# Altium integrated library FSC Logic Translator.IntLib: 55 symbols (part 1 of 2)
Pins are listed as number, name and electrical type; pins without a type are passive.

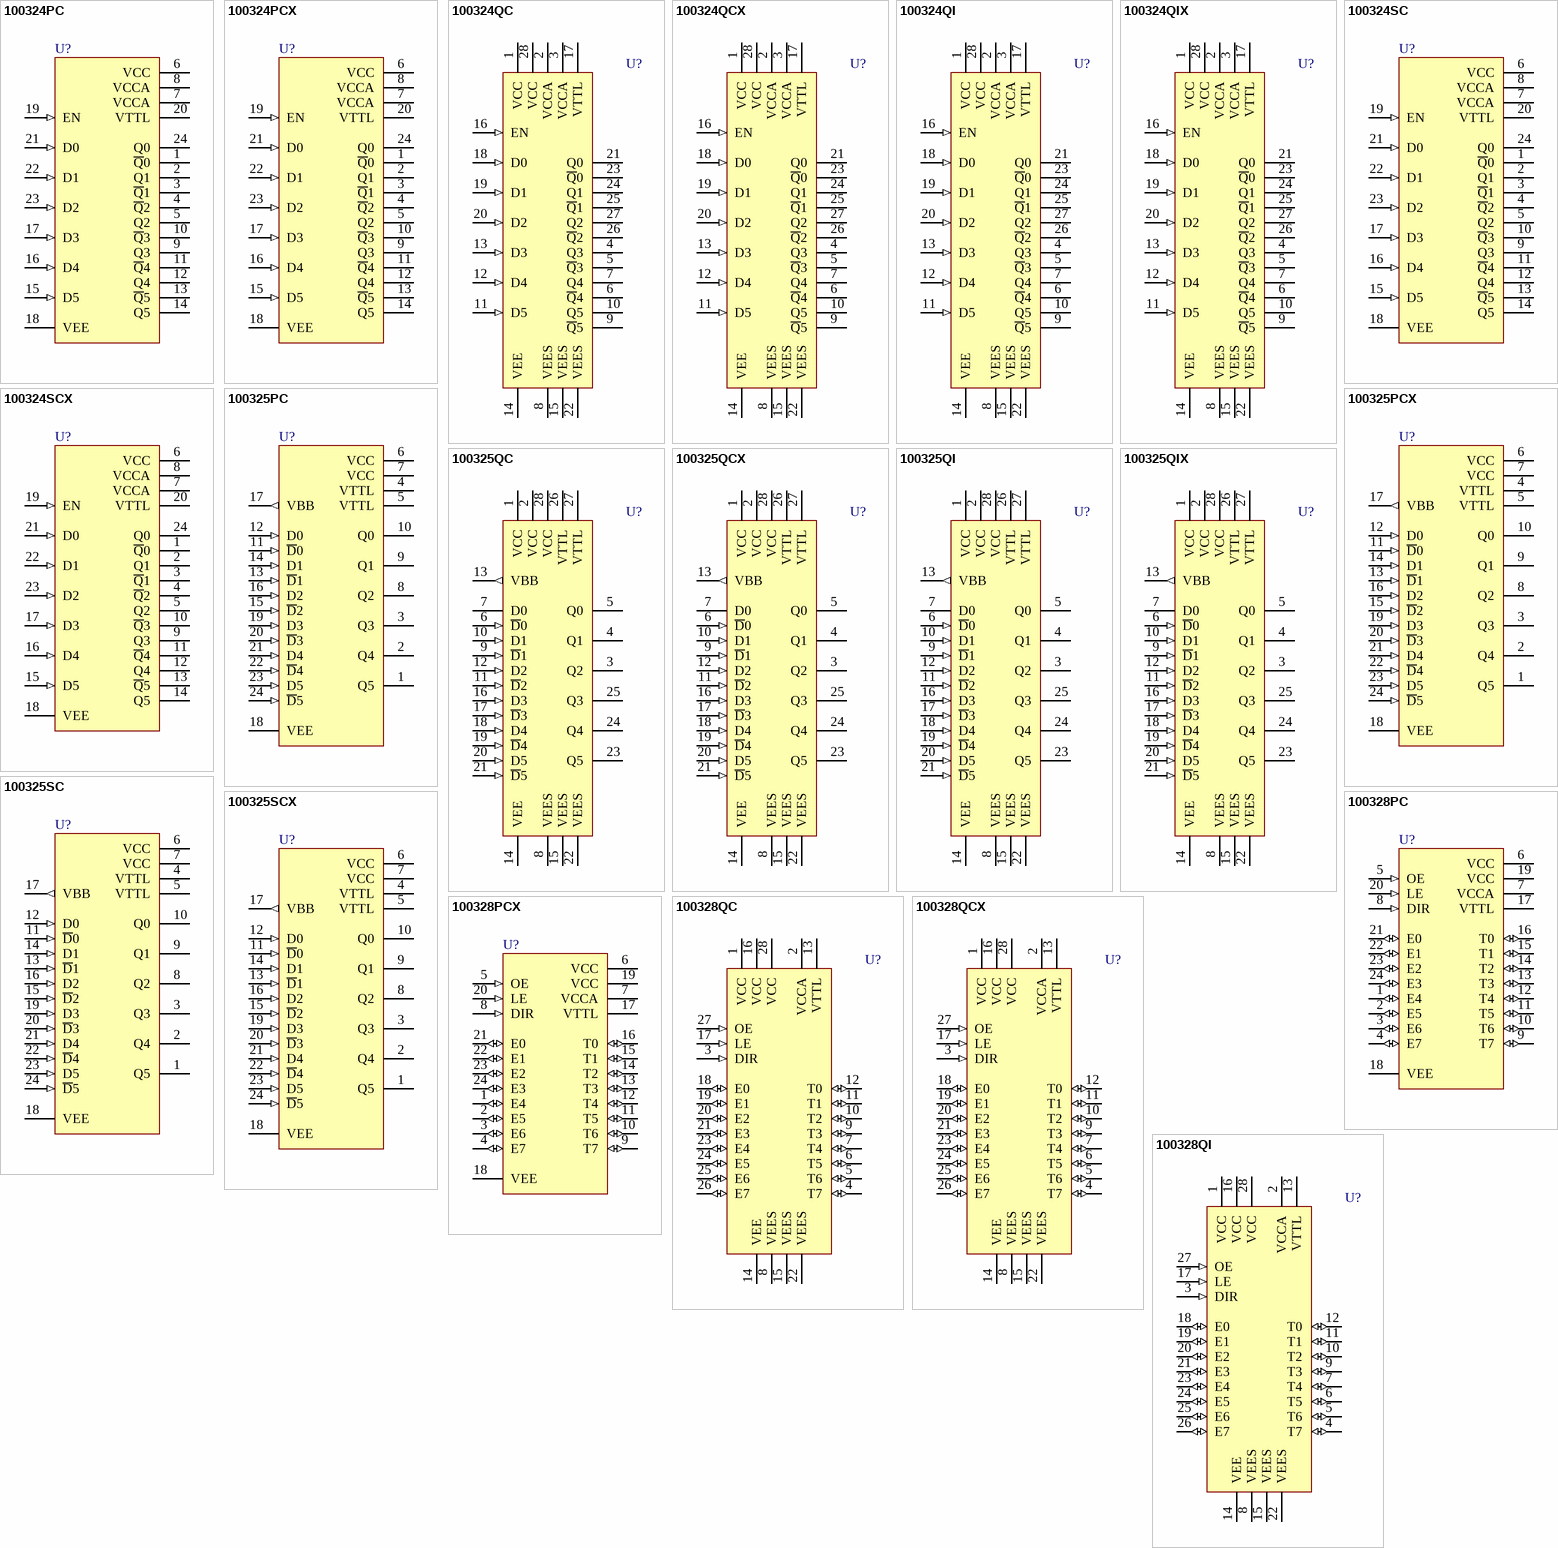
[diagram p0: symbols 100324PC to 100328QI]

## 100324PC
designator U?
Low Power Hex TTL-to-ECL Translator; Published: 17-Jul-2002; LatestRevisionDate: 29-May-2009; LatestRevisionNote: Component Body Added.; DatasheetVersion: Nov-1999; PackageVersion: 1992; PackageReference: N24E; Publisher: Altium Limited; PackageDescription: DIP, 24-Pin, Row Spacing 10.16 mm, Pitch 2.54 mm; ComponentLink1Description: Manufacturer Link; ComponentLink1URL: http://www.fairchildsemi.com/; ComponentLink2Description: Datasheet; ComponentLink2URL: http://www.fairchildsemi.com/ds/10%2F100324.pdf
footprint N24E (DIP, 24-Leads, Row Spacing 10.16mm, Pitch 2.54mm, Body 30.59x8.69mm)
3D model N24E (DIP, 24-Pin, Row Spacing 10.16 mm, Pitch 2.54 mm)
pins: 1 ~{Q}0 (oe), 2 Q1 (oe), 3 ~{Q}1 (oe), 4 ~{Q}2 (oe), 5 Q2 (oe), 6 VCC (power), 7 VCCA (power), 8 VCCA (power), 9 Q3 (oe), 10 ~{Q}3 (oe), 11 ~{Q}4 (oe), 12 Q4 (oe), 13 ~{Q}5 (oe), 14 Q5 (oe), 15 D5 (in), 16 D4 (in), 17 D3 (in), 18 VEE (power), 19 EN (in), 20 VTTL (power), 21 D0 (in), 22 D1 (in), 23 D2 (in), 24 Q0 (oe)

## 100324PCX
designator U?
Low Power Hex TTL-to-ECL Translator; Published: 17-Jul-2002; LatestRevisionDate: 29-May-2009; LatestRevisionNote: Component Body Added.; DatasheetVersion: Nov-1999; PackageVersion: 1992; PackageReference: N24E; Publisher: Altium Limited; PackageDescription: DIP, 24-Pin, Row Spacing 10.16 mm, Pitch 2.54 mm; ComponentLink1Description: Manufacturer Link; ComponentLink1URL: http://www.fairchildsemi.com/; ComponentLink2Description: Datasheet; ComponentLink2URL: http://www.fairchildsemi.com/ds/10%2F100324.pdf
footprint N24E (DIP, 24-Leads, Row Spacing 10.16mm, Pitch 2.54mm, Body 30.59x8.69mm)
3D model N24E (DIP, 24-Pin, Row Spacing 10.16 mm, Pitch 2.54 mm)
pins: 1 ~{Q}0 (oe), 2 Q1 (oe), 3 ~{Q}1 (oe), 4 ~{Q}2 (oe), 5 Q2 (oe), 6 VCC (power), 7 VCCA (power), 8 VCCA (power), 9 Q3 (oe), 10 ~{Q}3 (oe), 11 ~{Q}4 (oe), 12 Q4 (oe), 13 ~{Q}5 (oe), 14 Q5 (oe), 15 D5 (in), 16 D4 (in), 17 D3 (in), 18 VEE (power), 19 EN (in), 20 VTTL (power), 21 D0 (in), 22 D1 (in), 23 D2 (in), 24 Q0 (oe)

## 100324QC
designator U?
Low Power Hex TTL-to-ECL Translator; Published: 17-Jul-2002; LatestRevisionDate: 13-Apr-2006; LatestRevisionNote: IPC-7351 Footprint Added.; DatasheetVersion: Nov-1999; PackageVersion: 2000; PackageReference: V28A; Publisher: Altium Limited; PackageDescription: 28-Pin Leaded Chip Carrier 1.27 mm Pitch; Code_IPC: PLCC-28; ComponentLink1Description: Manufacturer Link; ComponentLink1URL: http://www.fairchildsemi.com/; ComponentLink2Description: Datasheet; ComponentLink2URL: http://www.fairchildsemi.com/ds/10%2F100324.pdf
footprint V28A_N (Leaded Chip Carrier, 28-Leads, Body 11.5x11.5mm, Pitch 1.27mm, IPC Medium Density)
footprint V28A_L (Leaded Chip Carrier, 28-Leads, Body 11.5x11.5mm, Pitch 1.27mm, IPC High Density)
footprint V28A_M (Leaded Chip Carrier, 28-Leads, Body 11.5x11.5mm, Pitch 1.27mm, IPC Low Density)
3D model 100324-V28A (28-Pin Leaded Chip Carrier 1.27 mm Pitch)
pins: 1 VCC (power), 2 VCCA (power), 3 VCCA (power), 4 Q3 (oe), 5 ~{Q}3 (oe), 6 ~{Q}4 (oe), 7 Q4 (oe), 8 VEES (power), 9 ~{Q}5 (oe), 10 Q5 (oe), 11 D5 (in), 12 D4 (in), 13 D3 (in), 14 VEE (power), 15 VEES (power), 16 EN (in), 17 VTTL (power), 18 D0 (in), 19 D1 (in), 20 D2 (in), 21 Q0 (oe), 22 VEES (power), 23 ~{Q}0 (oe), 24 Q1 (oe), 25 ~{Q}1 (oe), 26 ~{Q}2 (oe), 27 Q2 (oe), 28 VCC (power)

## 100324QCX
designator U?
Low Power Hex TTL-to-ECL Translator; Published: 17-Jul-2002; LatestRevisionDate: 13-Apr-2006; LatestRevisionNote: IPC-7351 Footprint Added.; DatasheetVersion: Nov-1999; PackageVersion: 2000; PackageReference: V28A; Publisher: Altium Limited; PackageDescription: 28-Pin Leaded Chip Carrier 1.27 mm Pitch; Code_IPC: PLCC-28; ComponentLink1Description: Manufacturer Link; ComponentLink1URL: http://www.fairchildsemi.com/; ComponentLink2Description: Datasheet; ComponentLink2URL: http://www.fairchildsemi.com/ds/10%2F100324.pdf
footprint V28A_N (Leaded Chip Carrier, 28-Leads, Body 11.5x11.5mm, Pitch 1.27mm, IPC Medium Density)
footprint V28A_L (Leaded Chip Carrier, 28-Leads, Body 11.5x11.5mm, Pitch 1.27mm, IPC High Density)
footprint V28A_M (Leaded Chip Carrier, 28-Leads, Body 11.5x11.5mm, Pitch 1.27mm, IPC Low Density)
3D model 100324-V28A (28-Pin Leaded Chip Carrier 1.27 mm Pitch)
pins: 1 VCC (power), 2 VCCA (power), 3 VCCA (power), 4 Q3 (oe), 5 ~{Q}3 (oe), 6 ~{Q}4 (oe), 7 Q4 (oe), 8 VEES (power), 9 ~{Q}5 (oe), 10 Q5 (oe), 11 D5 (in), 12 D4 (in), 13 D3 (in), 14 VEE (power), 15 VEES (power), 16 EN (in), 17 VTTL (power), 18 D0 (in), 19 D1 (in), 20 D2 (in), 21 Q0 (oe), 22 VEES (power), 23 ~{Q}0 (oe), 24 Q1 (oe), 25 ~{Q}1 (oe), 26 ~{Q}2 (oe), 27 Q2 (oe), 28 VCC (power)

## 100324QI
designator U?
Low Power Hex TTL-to-ECL Translator; Published: 17-Jul-2002; LatestRevisionDate: 13-Apr-2006; LatestRevisionNote: IPC-7351 Footprint Added.; DatasheetVersion: Nov-1999; PackageVersion: 2000; PackageReference: V28A; Publisher: Altium Limited; PackageDescription: 28-Pin Leaded Chip Carrier 1.27 mm Pitch; Code_IPC: PLCC-28; ComponentLink1Description: Manufacturer Link; ComponentLink1URL: http://www.fairchildsemi.com/; ComponentLink2Description: Datasheet; ComponentLink2URL: http://www.fairchildsemi.com/ds/10%2F100324.pdf
footprint V28A_N (Leaded Chip Carrier, 28-Leads, Body 11.5x11.5mm, Pitch 1.27mm, IPC Medium Density)
footprint V28A_L (Leaded Chip Carrier, 28-Leads, Body 11.5x11.5mm, Pitch 1.27mm, IPC High Density)
footprint V28A_M (Leaded Chip Carrier, 28-Leads, Body 11.5x11.5mm, Pitch 1.27mm, IPC Low Density)
3D model 100324-V28A (28-Pin Leaded Chip Carrier 1.27 mm Pitch)
pins: 1 VCC (power), 2 VCCA (power), 3 VCCA (power), 4 Q3 (oe), 5 ~{Q}3 (oe), 6 ~{Q}4 (oe), 7 Q4 (oe), 8 VEES (power), 9 ~{Q}5 (oe), 10 Q5 (oe), 11 D5 (in), 12 D4 (in), 13 D3 (in), 14 VEE (power), 15 VEES (power), 16 EN (in), 17 VTTL (power), 18 D0 (in), 19 D1 (in), 20 D2 (in), 21 Q0 (oe), 22 VEES (power), 23 ~{Q}0 (oe), 24 Q1 (oe), 25 ~{Q}1 (oe), 26 ~{Q}2 (oe), 27 Q2 (oe), 28 VCC (power)

## 100324QIX
designator U?
Low Power Hex TTL-to-ECL Translator; Published: 17-Jul-2002; LatestRevisionDate: 13-Apr-2006; LatestRevisionNote: IPC-7351 Footprint Added.; DatasheetVersion: Nov-1999; PackageVersion: 2000; PackageReference: V28A; Publisher: Altium Limited; PackageDescription: 28-Pin Leaded Chip Carrier 1.27 mm Pitch; Code_IPC: PLCC-28; ComponentLink1Description: Manufacturer Link; ComponentLink1URL: http://www.fairchildsemi.com/; ComponentLink2Description: Datasheet; ComponentLink2URL: http://www.fairchildsemi.com/ds/10%2F100324.pdf
footprint V28A_N (Leaded Chip Carrier, 28-Leads, Body 11.5x11.5mm, Pitch 1.27mm, IPC Medium Density)
footprint V28A_L (Leaded Chip Carrier, 28-Leads, Body 11.5x11.5mm, Pitch 1.27mm, IPC High Density)
footprint V28A_M (Leaded Chip Carrier, 28-Leads, Body 11.5x11.5mm, Pitch 1.27mm, IPC Low Density)
3D model 100324-V28A (28-Pin Leaded Chip Carrier 1.27 mm Pitch)
pins: 1 VCC (power), 2 VCCA (power), 3 VCCA (power), 4 Q3 (oe), 5 ~{Q}3 (oe), 6 ~{Q}4 (oe), 7 Q4 (oe), 8 VEES (power), 9 ~{Q}5 (oe), 10 Q5 (oe), 11 D5 (in), 12 D4 (in), 13 D3 (in), 14 VEE (power), 15 VEES (power), 16 EN (in), 17 VTTL (power), 18 D0 (in), 19 D1 (in), 20 D2 (in), 21 Q0 (oe), 22 VEES (power), 23 ~{Q}0 (oe), 24 Q1 (oe), 25 ~{Q}1 (oe), 26 ~{Q}2 (oe), 27 Q2 (oe), 28 VCC (power)

## 100324SC
designator U?
Low Power Hex TTL-to-ECL Translator; Published: 17-Jul-2002; LatestRevisionDate: 13-Apr-2006; LatestRevisionNote: IPC-7351 Footprint Added.; DatasheetVersion: Nov-1999; PackageVersion: 2000; PackageReference: M24B; Publisher: Altium Limited; PackageDescription: 24-Pin Small Outline Integrated Circuit 1.27 mm Pitch; ComponentLink1Description: Manufacturer Link; ComponentLink1URL: http://www.fairchildsemi.com/; ComponentLink2Description: Datasheet; ComponentLink2URL: http://www.fairchildsemi.com/ds/10%2F100324.pdf
footprint M24B_N (SOIC, 24-Leads, Body 15.4x7.5mm, Pitch 1.27mm, IPC Medium Density)
footprint M24B_L (SOIC, 24-Leads, Body 15.4x7.5mm, Pitch 1.27mm, IPC High Density)
footprint M24B_M (SOIC, 24-Leads, Body 15.4x7.5mm, Pitch 1.27mm, IPC Low Density)
3D model M24B (24-Pin Small Outline Integrated Circuit 1.27 mm Pitch)
pins: 1 ~{Q}0 (oe), 2 Q1 (oe), 3 ~{Q}1 (oe), 4 ~{Q}2 (oe), 5 Q2 (oe), 6 VCC (power), 7 VCCA (power), 8 VCCA (power), 9 Q3 (oe), 10 ~{Q}3 (oe), 11 ~{Q}4 (oe), 12 Q4 (oe), 13 ~{Q}5 (oe), 14 Q5 (oe), 15 D5 (in), 16 D4 (in), 17 D3 (in), 18 VEE (power), 19 EN (in), 20 VTTL (power), 21 D0 (in), 22 D1 (in), 23 D2 (in), 24 Q0 (oe)

## 100324SCX
designator U?
Low Power Hex TTL-to-ECL Translator; Published: 17-Jul-2002; LatestRevisionDate: 13-Apr-2006; LatestRevisionNote: IPC-7351 Footprint Added.; DatasheetVersion: Nov-1999; PackageVersion: 2000; PackageReference: M24B; Publisher: Altium Limited; PackageDescription: 24-Pin Small Outline Integrated Circuit 1.27 mm Pitch; ComponentLink1Description: Manufacturer Link; ComponentLink1URL: http://www.fairchildsemi.com/; ComponentLink2Description: Datasheet; ComponentLink2URL: http://www.fairchildsemi.com/ds/10%2F100324.pdf
footprint M24B_N (SOIC, 24-Leads, Body 15.4x7.5mm, Pitch 1.27mm, IPC Medium Density)
footprint M24B_L (SOIC, 24-Leads, Body 15.4x7.5mm, Pitch 1.27mm, IPC High Density)
footprint M24B_M (SOIC, 24-Leads, Body 15.4x7.5mm, Pitch 1.27mm, IPC Low Density)
3D model M24B (24-Pin Small Outline Integrated Circuit 1.27 mm Pitch)
pins: 1 ~{Q}0 (oe), 2 Q1 (oe), 3 ~{Q}1 (oe), 4 ~{Q}2 (oe), 5 Q2 (oe), 6 VCC (power), 7 VCCA (power), 8 VCCA (power), 9 Q3 (oe), 10 ~{Q}3 (oe), 11 ~{Q}4 (oe), 12 Q4 (oe), 13 ~{Q}5 (oe), 14 Q5 (oe), 15 D5 (in), 16 D4 (in), 17 D3 (in), 18 VEE (power), 19 EN (in), 20 VTTL (power), 21 D0 (in), 22 D1 (in), 23 D2 (in), 24 Q0 (oe)

## 100325PC
designator U?
Low Power Hex ECL-to-TTL Translator; Published: 17-Jul-2002; LatestRevisionDate: 29-May-2009; LatestRevisionNote: Component Body Added.; DatasheetVersion: Nov-1999; PackageVersion: 1992; PackageReference: N24E; Publisher: Altium Limited; PackageDescription: DIP, 24-Pin, Row Spacing 10.16 mm, Pitch 2.54 mm; ComponentLink1Description: Manufacturer Link; ComponentLink1URL: http://www.fairchildsemi.com/; ComponentLink2Description: Datasheet; ComponentLink2URL: http://www.fairchildsemi.com/ds/10%2F100325.pdf
footprint N24E (DIP, 24-Leads, Row Spacing 10.16mm, Pitch 2.54mm, Body 30.59x8.69mm)
3D model N24E (DIP, 24-Pin, Row Spacing 10.16 mm, Pitch 2.54 mm)
pins: 1 Q5 (oe), 2 Q4 (oe), 3 Q3 (oe), 4 VTTL (power), 5 VTTL (power), 6 VCC (power), 7 VCC (power), 8 Q2 (oe), 9 Q1 (oe), 10 Q0 (oe), 11 ~{D}0 (in), 12 D0 (in), 13 ~{D}1 (in), 14 D1 (in), 15 ~{D}2 (in), 16 D2 (in), 17 VBB (out), 18 VEE (power), 19 D3 (in), 20 ~{D}3 (in), 21 D4 (in), 22 ~{D}4 (in), 23 D5 (in), 24 ~{D}5 (in)

## 100325PCX
designator U?
Low Power Hex ECL-to-TTL Translator; Published: 17-Jul-2002; LatestRevisionDate: 29-May-2009; LatestRevisionNote: Component Body Added.; DatasheetVersion: Nov-1999; PackageVersion: 1992; PackageReference: N24E; Publisher: Altium Limited; PackageDescription: DIP, 24-Pin, Row Spacing 10.16 mm, Pitch 2.54 mm; ComponentLink1Description: Manufacturer Link; ComponentLink1URL: http://www.fairchildsemi.com/; ComponentLink2Description: Datasheet; ComponentLink2URL: http://www.fairchildsemi.com/ds/10%2F100325.pdf
footprint N24E (DIP, 24-Leads, Row Spacing 10.16mm, Pitch 2.54mm, Body 30.59x8.69mm)
3D model N24E (DIP, 24-Pin, Row Spacing 10.16 mm, Pitch 2.54 mm)
pins: 1 Q5 (oe), 2 Q4 (oe), 3 Q3 (oe), 4 VTTL (power), 5 VTTL (power), 6 VCC (power), 7 VCC (power), 8 Q2 (oe), 9 Q1 (oe), 10 Q0 (oe), 11 ~{D}0 (in), 12 D0 (in), 13 ~{D}1 (in), 14 D1 (in), 15 ~{D}2 (in), 16 D2 (in), 17 VBB (out), 18 VEE (power), 19 D3 (in), 20 ~{D}3 (in), 21 D4 (in), 22 ~{D}4 (in), 23 D5 (in), 24 ~{D}5 (in)

## 100325QC
designator U?
Low Power Hex ECL-to-TTL Translator; Published: 17-Jul-2002; LatestRevisionDate: 13-Apr-2006; LatestRevisionNote: IPC-7351 Footprint Added.; DatasheetVersion: Nov-1999; PackageVersion: 2000; PackageReference: V28A; Publisher: Altium Limited; PackageDescription: 28-Pin Leaded Chip Carrier 1.27 mm Pitch; Code_IPC: PLCC-28; ComponentLink1Description: Manufacturer Link; ComponentLink1URL: http://www.fairchildsemi.com/; ComponentLink2Description: Datasheet; ComponentLink2URL: http://www.fairchildsemi.com/ds/10%2F100325.pdf
footprint V28A_N (Leaded Chip Carrier, 28-Leads, Body 11.5x11.5mm, Pitch 1.27mm, IPC Medium Density)
footprint V28A_L (Leaded Chip Carrier, 28-Leads, Body 11.5x11.5mm, Pitch 1.27mm, IPC High Density)
footprint V28A_M (Leaded Chip Carrier, 28-Leads, Body 11.5x11.5mm, Pitch 1.27mm, IPC Low Density)
3D model 100325-V28A (28-Pin Leaded Chip Carrier 1.27 mm Pitch)
pins: 1 VCC (power), 2 VCC (power), 3 Q2 (oe), 4 Q1 (oe), 5 Q0 (oe), 6 ~{D}0 (in), 7 D0 (power), 8 VEES (power), 9 ~{D}1 (in), 10 D1 (in), 11 ~{D}2 (in), 12 D2 (in), 13 VBB (out), 14 VEE (power), 15 VEES (power), 16 D3 (in), 17 ~{D}3 (in), 18 D4 (in), 19 ~{D}4 (in), 20 D5 (in), 21 ~{D}5 (in), 22 VEES (power), 23 Q5 (oe), 24 Q4 (oe), 25 Q3 (oe), 26 VTTL (power), 27 VTTL (power), 28 VCC (power)

## 100325QCX
designator U?
Low Power Hex ECL-to-TTL Translator; Published: 17-Jul-2002; LatestRevisionDate: 13-Apr-2006; LatestRevisionNote: IPC-7351 Footprint Added.; DatasheetVersion: Nov-1999; PackageVersion: 2000; PackageReference: V28A; Publisher: Altium Limited; PackageDescription: 28-Pin Leaded Chip Carrier 1.27 mm Pitch; Code_IPC: PLCC-28; ComponentLink1Description: Manufacturer Link; ComponentLink1URL: http://www.fairchildsemi.com/; ComponentLink2Description: Datasheet; ComponentLink2URL: http://www.fairchildsemi.com/ds/10%2F100325.pdf
footprint V28A_N (Leaded Chip Carrier, 28-Leads, Body 11.5x11.5mm, Pitch 1.27mm, IPC Medium Density)
footprint V28A_L (Leaded Chip Carrier, 28-Leads, Body 11.5x11.5mm, Pitch 1.27mm, IPC High Density)
footprint V28A_M (Leaded Chip Carrier, 28-Leads, Body 11.5x11.5mm, Pitch 1.27mm, IPC Low Density)
3D model 100325-V28A (28-Pin Leaded Chip Carrier 1.27 mm Pitch)
pins: 1 VCC (power), 2 VCC (power), 3 Q2 (oe), 4 Q1 (oe), 5 Q0 (oe), 6 ~{D}0 (in), 7 D0 (power), 8 VEES (power), 9 ~{D}1 (in), 10 D1 (in), 11 ~{D}2 (in), 12 D2 (in), 13 VBB (out), 14 VEE (power), 15 VEES (power), 16 D3 (in), 17 ~{D}3 (in), 18 D4 (in), 19 ~{D}4 (in), 20 D5 (in), 21 ~{D}5 (in), 22 VEES (power), 23 Q5 (oe), 24 Q4 (oe), 25 Q3 (oe), 26 VTTL (power), 27 VTTL (power), 28 VCC (power)

## 100325QI
designator U?
Low Power Hex ECL-to-TTL Translator; Published: 17-Jul-2002; LatestRevisionDate: 13-Apr-2006; LatestRevisionNote: IPC-7351 Footprint Added.; DatasheetVersion: Nov-1999; PackageVersion: 2000; PackageReference: V28A; Publisher: Altium Limited; PackageDescription: 28-Pin Leaded Chip Carrier 1.27 mm Pitch; Code_IPC: PLCC-28; ComponentLink1Description: Manufacturer Link; ComponentLink1URL: http://www.fairchildsemi.com/; ComponentLink2Description: Datasheet; ComponentLink2URL: http://www.fairchildsemi.com/ds/10%2F100325.pdf
footprint V28A_N (Leaded Chip Carrier, 28-Leads, Body 11.5x11.5mm, Pitch 1.27mm, IPC Medium Density)
footprint V28A_L (Leaded Chip Carrier, 28-Leads, Body 11.5x11.5mm, Pitch 1.27mm, IPC High Density)
footprint V28A_M (Leaded Chip Carrier, 28-Leads, Body 11.5x11.5mm, Pitch 1.27mm, IPC Low Density)
3D model 100325-V28A (28-Pin Leaded Chip Carrier 1.27 mm Pitch)
pins: 1 VCC (power), 2 VCC (power), 3 Q2 (oe), 4 Q1 (oe), 5 Q0 (oe), 6 ~{D}0 (in), 7 D0 (power), 8 VEES (power), 9 ~{D}1 (in), 10 D1 (in), 11 ~{D}2 (in), 12 D2 (in), 13 VBB (out), 14 VEE (power), 15 VEES (power), 16 D3 (in), 17 ~{D}3 (in), 18 D4 (in), 19 ~{D}4 (in), 20 D5 (in), 21 ~{D}5 (in), 22 VEES (power), 23 Q5 (oe), 24 Q4 (oe), 25 Q3 (oe), 26 VTTL (power), 27 VTTL (power), 28 VCC (power)

## 100325QIX
designator U?
Low Power Hex ECL-to-TTL Translator; Published: 17-Jul-2002; LatestRevisionDate: 13-Apr-2006; LatestRevisionNote: IPC-7351 Footprint Added.; DatasheetVersion: Nov-1999; PackageVersion: 2000; PackageReference: V28A; Publisher: Altium Limited; PackageDescription: 28-Pin Leaded Chip Carrier 1.27 mm Pitch; Code_IPC: PLCC-28; ComponentLink1Description: Manufacturer Link; ComponentLink1URL: http://www.fairchildsemi.com/; ComponentLink2Description: Datasheet; ComponentLink2URL: http://www.fairchildsemi.com/ds/10%2F100325.pdf
footprint V28A_N (Leaded Chip Carrier, 28-Leads, Body 11.5x11.5mm, Pitch 1.27mm, IPC Medium Density)
footprint V28A_L (Leaded Chip Carrier, 28-Leads, Body 11.5x11.5mm, Pitch 1.27mm, IPC High Density)
footprint V28A_M (Leaded Chip Carrier, 28-Leads, Body 11.5x11.5mm, Pitch 1.27mm, IPC Low Density)
3D model 100325-V28A (28-Pin Leaded Chip Carrier 1.27 mm Pitch)
pins: 1 VCC (power), 2 VCC (power), 3 Q2 (oe), 4 Q1 (oe), 5 Q0 (oe), 6 ~{D}0 (in), 7 D0 (power), 8 VEES (power), 9 ~{D}1 (in), 10 D1 (in), 11 ~{D}2 (in), 12 D2 (in), 13 VBB (out), 14 VEE (power), 15 VEES (power), 16 D3 (in), 17 ~{D}3 (in), 18 D4 (in), 19 ~{D}4 (in), 20 D5 (in), 21 ~{D}5 (in), 22 VEES (power), 23 Q5 (oe), 24 Q4 (oe), 25 Q3 (oe), 26 VTTL (power), 27 VTTL (power), 28 VCC (power)

## 100325SC
designator U?
Low Power Hex ECL-to-TTL Translator; Published: 17-Jul-2002; LatestRevisionDate: 13-Apr-2006; LatestRevisionNote: IPC-7351 Footprint Added.; DatasheetVersion: Nov-1999; PackageVersion: 2000; PackageReference: M24B; Publisher: Altium Limited; PackageDescription: 24-Pin Small Outline Integrated Circuit 1.27 mm Pitch; ComponentLink1Description: Manufacturer Link; ComponentLink1URL: http://www.fairchildsemi.com/; ComponentLink2Description: Datasheet; ComponentLink2URL: http://www.fairchildsemi.com/ds/10%2F100325.pdf
footprint M24B_N (SOIC, 24-Leads, Body 15.4x7.5mm, Pitch 1.27mm, IPC Medium Density)
footprint M24B_L (SOIC, 24-Leads, Body 15.4x7.5mm, Pitch 1.27mm, IPC High Density)
footprint M24B_M (SOIC, 24-Leads, Body 15.4x7.5mm, Pitch 1.27mm, IPC Low Density)
3D model M24B (24-Pin Small Outline Integrated Circuit 1.27 mm Pitch)
pins: 1 Q5 (oe), 2 Q4 (oe), 3 Q3 (oe), 4 VTTL (power), 5 VTTL (power), 6 VCC (power), 7 VCC (power), 8 Q2 (oe), 9 Q1 (oe), 10 Q0 (oe), 11 ~{D}0 (in), 12 D0 (in), 13 ~{D}1 (in), 14 D1 (in), 15 ~{D}2 (in), 16 D2 (in), 17 VBB (out), 18 VEE (power), 19 D3 (in), 20 ~{D}3 (in), 21 D4 (in), 22 ~{D}4 (in), 23 D5 (in), 24 ~{D}5 (in)

## 100325SCX
designator U?
Low Power Hex ECL-to-TTL Translator; Published: 17-Jul-2002; LatestRevisionDate: 13-Apr-2006; LatestRevisionNote: IPC-7351 Footprint Added.; DatasheetVersion: Nov-1999; PackageVersion: 2000; PackageReference: M24B; Publisher: Altium Limited; PackageDescription: 24-Pin Small Outline Integrated Circuit 1.27 mm Pitch; ComponentLink1Description: Manufacturer Link; ComponentLink1URL: http://www.fairchildsemi.com/; ComponentLink2Description: Datasheet; ComponentLink2URL: http://www.fairchildsemi.com/ds/10%2F100325.pdf
footprint M24B_N (SOIC, 24-Leads, Body 15.4x7.5mm, Pitch 1.27mm, IPC Medium Density)
footprint M24B_L (SOIC, 24-Leads, Body 15.4x7.5mm, Pitch 1.27mm, IPC High Density)
footprint M24B_M (SOIC, 24-Leads, Body 15.4x7.5mm, Pitch 1.27mm, IPC Low Density)
3D model M24B (24-Pin Small Outline Integrated Circuit 1.27 mm Pitch)
pins: 1 Q5 (oe), 2 Q4 (oe), 3 Q3 (oe), 4 VTTL (power), 5 VTTL (power), 6 VCC (power), 7 VCC (power), 8 Q2 (oe), 9 Q1 (oe), 10 Q0 (oe), 11 ~{D}0 (in), 12 D0 (in), 13 ~{D}1 (in), 14 D1 (in), 15 ~{D}2 (in), 16 D2 (in), 17 VBB (out), 18 VEE (power), 19 D3 (in), 20 ~{D}3 (in), 21 D4 (in), 22 ~{D}4 (in), 23 D5 (in), 24 ~{D}5 (in)

## 100328PC
designator U?
Low Power Octal ECL/TTL Bi-Directional Translator with Latch; Published: 17-Jul-2002; LatestRevisionDate: 29-May-2009; LatestRevisionNote: Component Body Added.; DatasheetVersion: Nov-1999; PackageVersion: 1992; PackageReference: N24E; Publisher: Altium Limited; PackageDescription: DIP, 24-Pin, Row Spacing 10.16 mm, Pitch 2.54 mm; ComponentLink1Description: Manufacturer Link; ComponentLink1URL: http://www.fairchildsemi.com/
footprint N24E (DIP, 24-Leads, Row Spacing 10.16mm, Pitch 2.54mm, Body 30.59x8.69mm)
3D model N24E (DIP, 24-Pin, Row Spacing 10.16 mm, Pitch 2.54 mm)
pins: 1 E4 (io), 2 E5 (io), 3 E6 (io), 4 E7 (io), 5 OE (in), 6 VCC (power), 7 VCCA (power), 8 DIR (in), 9 T7 (io), 10 T6 (io), 11 T5 (io), 12 T4 (io), 13 T3 (io), 14 T2 (io), 15 T1 (io), 16 T0 (io), 17 VTTL (power), 18 VEE (power), 19 VCC (power), 20 LE (in), 21 E0 (io), 22 E1 (io), 23 E2 (io), 24 E3 (io)

## 100328PCX
designator U?
Low Power Octal ECL/TTL Bi-Directional Translator with Latch; Published: 17-Jul-2002; LatestRevisionDate: 29-May-2009; LatestRevisionNote: Component Body Added.; DatasheetVersion: Nov-1999; PackageVersion: 1992; PackageReference: N24E; Publisher: Altium Limited; PackageDescription: DIP, 24-Pin, Row Spacing 10.16 mm, Pitch 2.54 mm; ComponentLink1Description: Manufacturer Link; ComponentLink1URL: http://www.fairchildsemi.com/
footprint N24E (DIP, 24-Leads, Row Spacing 10.16mm, Pitch 2.54mm, Body 30.59x8.69mm)
3D model N24E (DIP, 24-Pin, Row Spacing 10.16 mm, Pitch 2.54 mm)
pins: 1 E4 (io), 2 E5 (io), 3 E6 (io), 4 E7 (io), 5 OE (in), 6 VCC (power), 7 VCCA (power), 8 DIR (in), 9 T7 (io), 10 T6 (io), 11 T5 (io), 12 T4 (io), 13 T3 (io), 14 T2 (io), 15 T1 (io), 16 T0 (io), 17 VTTL (power), 18 VEE (power), 19 VCC (power), 20 LE (in), 21 E0 (io), 22 E1 (io), 23 E2 (io), 24 E3 (io)

## 100328QC
designator U?
Low Power Octal ECL/TTL Bi-Directional Translator with Latch; Published: 17-Jul-2002; LatestRevisionDate: 13-Apr-2006; LatestRevisionNote: IPC-7351 Footprint Added.; DatasheetVersion: Nov-1999; PackageVersion: 2000; PackageReference: V28A; Publisher: Altium Limited; PackageDescription: 28-Pin Leaded Chip Carrier 1.27 mm Pitch; Code_IPC: PLCC-28; ComponentLink1Description: Manufacturer Link; ComponentLink1URL: http://www.fairchildsemi.com/
footprint V28A_N (Leaded Chip Carrier, 28-Leads, Body 11.5x11.5mm, Pitch 1.27mm, IPC Medium Density)
footprint V28A_L (Leaded Chip Carrier, 28-Leads, Body 11.5x11.5mm, Pitch 1.27mm, IPC High Density)
footprint V28A_M (Leaded Chip Carrier, 28-Leads, Body 11.5x11.5mm, Pitch 1.27mm, IPC Low Density)
3D model 100328-V28A (28-Pin Leaded Chip Carrier 1.27 mm Pitch)
pins: 1 VCC (power), 2 VCCA (power), 3 DIR (in), 4 T7 (io), 5 T6 (io), 6 T5 (io), 7 T4 (io), 8 VEES (power), 9 T3 (io), 10 T2 (io), 11 T1 (io), 12 T0 (io), 13 VTTL (power), 14 VEE (power), 15 VEES (power), 16 VCC (power), 17 LE (in), 18 E0 (io), 19 E1 (io), 20 E2 (io), 21 E3 (io), 22 VEES (power), 23 E4 (io), 24 E5 (io), 25 E6 (io), 26 E7 (io), 27 OE (in), 28 VCC (power)

## 100328QCX
designator U?
Low Power Octal ECL/TTL Bi-Directional Translator with Latch; Published: 17-Jul-2002; LatestRevisionDate: 13-Apr-2006; LatestRevisionNote: IPC-7351 Footprint Added.; DatasheetVersion: Nov-1999; PackageVersion: 2000; PackageReference: V28A; Publisher: Altium Limited; PackageDescription: 28-Pin Leaded Chip Carrier 1.27 mm Pitch; Code_IPC: PLCC-28; ComponentLink1Description: Manufacturer Link; ComponentLink1URL: http://www.fairchildsemi.com/
footprint V28A_N (Leaded Chip Carrier, 28-Leads, Body 11.5x11.5mm, Pitch 1.27mm, IPC Medium Density)
footprint V28A_L (Leaded Chip Carrier, 28-Leads, Body 11.5x11.5mm, Pitch 1.27mm, IPC High Density)
footprint V28A_M (Leaded Chip Carrier, 28-Leads, Body 11.5x11.5mm, Pitch 1.27mm, IPC Low Density)
3D model 100328-V28A (28-Pin Leaded Chip Carrier 1.27 mm Pitch)
pins: 1 VCC (power), 2 VCCA (power), 3 DIR (in), 4 T7 (io), 5 T6 (io), 6 T5 (io), 7 T4 (io), 8 VEES (power), 9 T3 (io), 10 T2 (io), 11 T1 (io), 12 T0 (io), 13 VTTL (power), 14 VEE (power), 15 VEES (power), 16 VCC (power), 17 LE (in), 18 E0 (io), 19 E1 (io), 20 E2 (io), 21 E3 (io), 22 VEES (power), 23 E4 (io), 24 E5 (io), 25 E6 (io), 26 E7 (io), 27 OE (in), 28 VCC (power)

## 100328QI
designator U?
Low Power Octal ECL/TTL Bi-Directional Translator with Latch; Published: 17-Jul-2002; LatestRevisionDate: 13-Apr-2006; LatestRevisionNote: IPC-7351 Footprint Added.; DatasheetVersion: Nov-1999; PackageVersion: 2000; PackageReference: V28A; Publisher: Altium Limited; PackageDescription: 28-Pin Leaded Chip Carrier 1.27 mm Pitch; Code_IPC: PLCC-28; ComponentLink1Description: Manufacturer Link; ComponentLink1URL: http://www.fairchildsemi.com/
footprint V28A_N (Leaded Chip Carrier, 28-Leads, Body 11.5x11.5mm, Pitch 1.27mm, IPC Medium Density)
footprint V28A_L (Leaded Chip Carrier, 28-Leads, Body 11.5x11.5mm, Pitch 1.27mm, IPC High Density)
footprint V28A_M (Leaded Chip Carrier, 28-Leads, Body 11.5x11.5mm, Pitch 1.27mm, IPC Low Density)
3D model 100328-V28A (28-Pin Leaded Chip Carrier 1.27 mm Pitch)
pins: 1 VCC (power), 2 VCCA (power), 3 DIR (in), 4 T7 (io), 5 T6 (io), 6 T5 (io), 7 T4 (io), 8 VEES (power), 9 T3 (io), 10 T2 (io), 11 T1 (io), 12 T0 (io), 13 VTTL (power), 14 VEE (power), 15 VEES (power), 16 VCC (power), 17 LE (in), 18 E0 (io), 19 E1 (io), 20 E2 (io), 21 E3 (io), 22 VEES (power), 23 E4 (io), 24 E5 (io), 25 E6 (io), 26 E7 (io), 27 OE (in), 28 VCC (power)

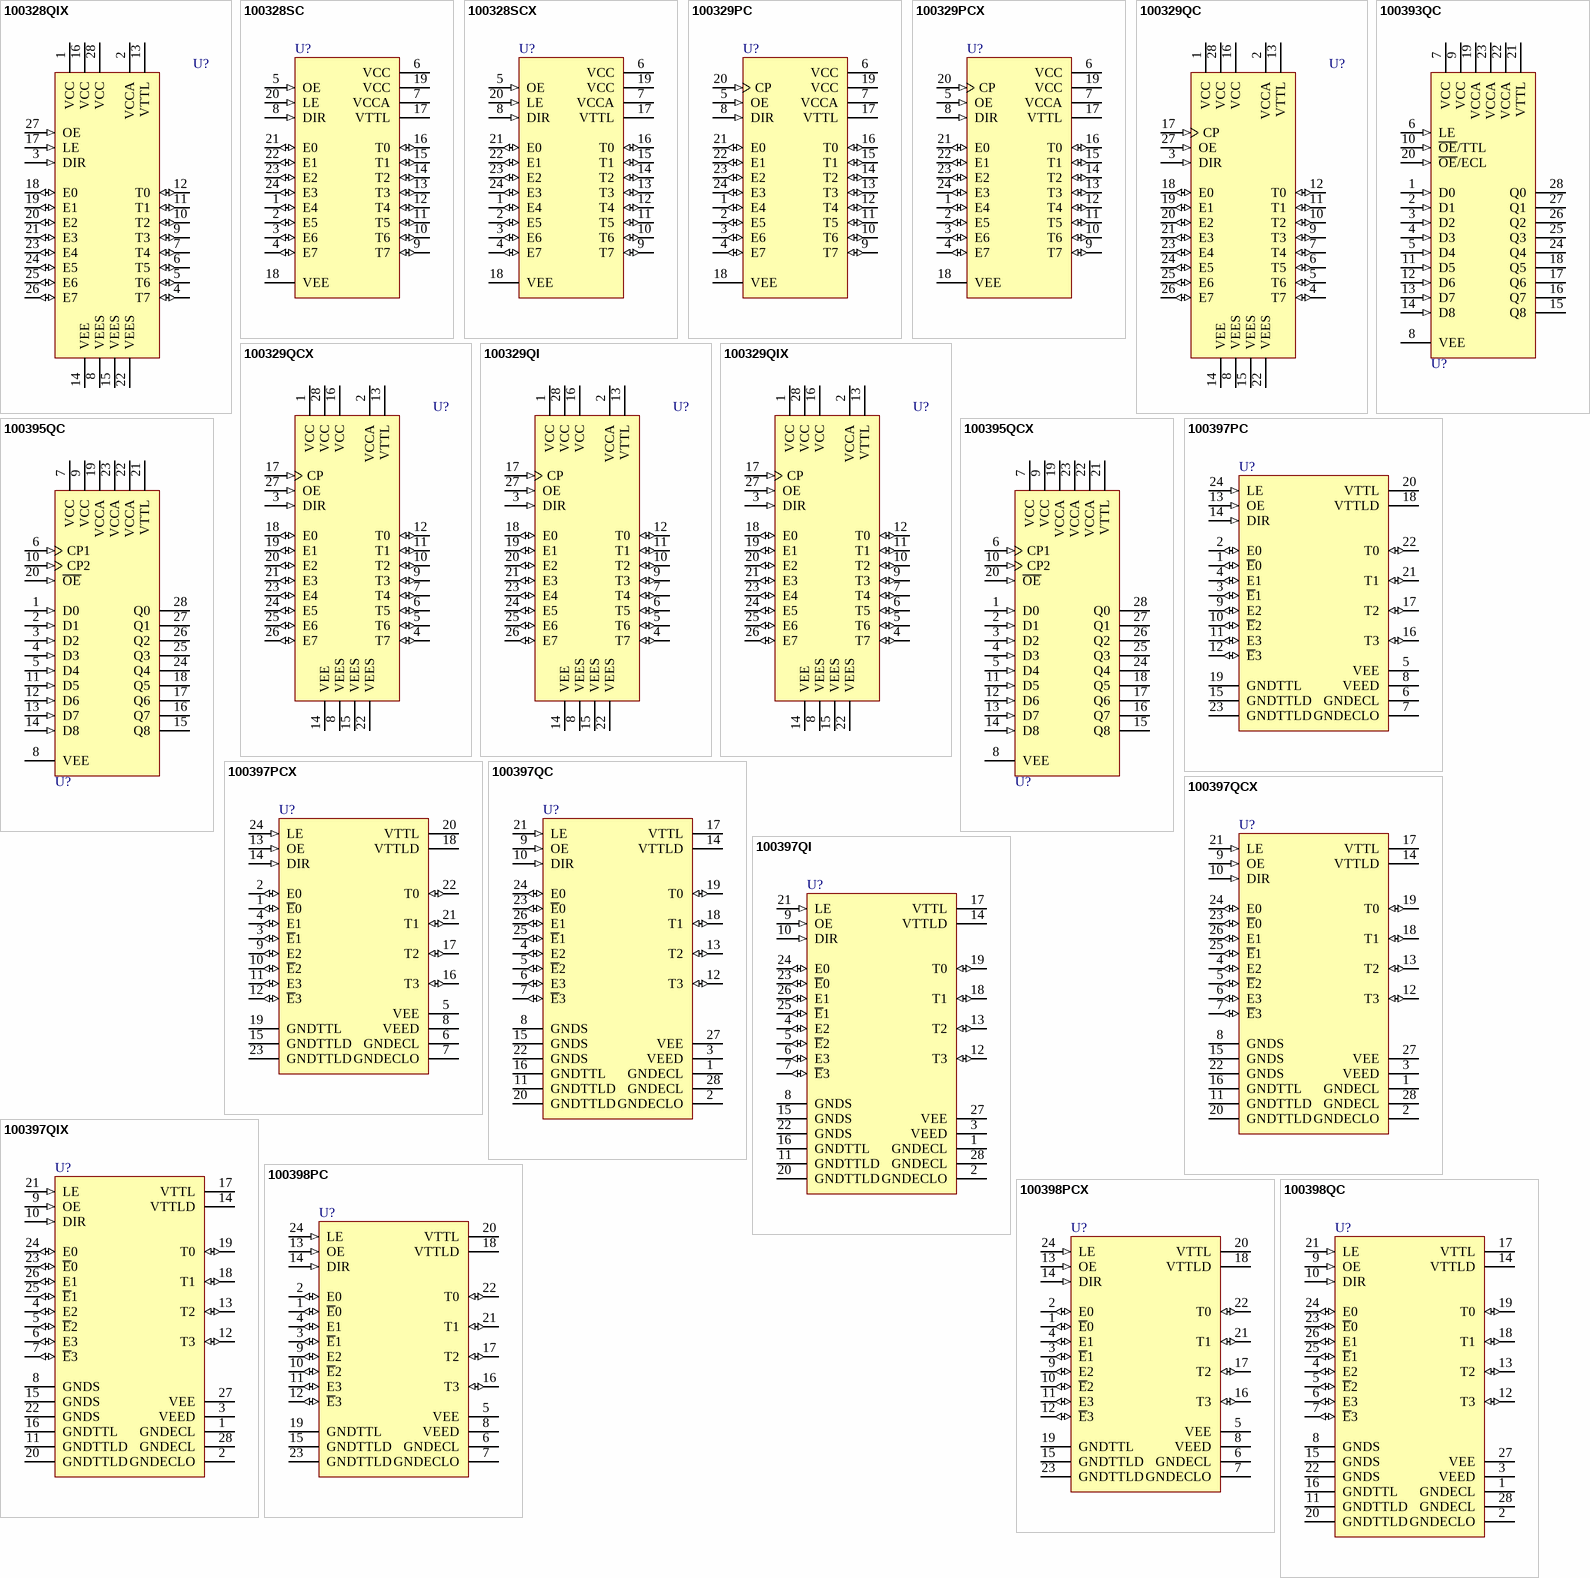
[diagram p1: symbols 100328QIX to 100398QC]

## 100328QIX
designator U?
Low Power Octal ECL/TTL Bi-Directional Translator with Latch; Published: 17-Jul-2002; LatestRevisionDate: 13-Apr-2006; LatestRevisionNote: IPC-7351 Footprint Added.; DatasheetVersion: Nov-1999; PackageVersion: 2000; PackageReference: V28A; Publisher: Altium Limited; PackageDescription: 28-Pin Leaded Chip Carrier 1.27 mm Pitch; Code_IPC: PLCC-28; ComponentLink1Description: Manufacturer Link; ComponentLink1URL: http://www.fairchildsemi.com/
footprint V28A_N (Leaded Chip Carrier, 28-Leads, Body 11.5x11.5mm, Pitch 1.27mm, IPC Medium Density)
footprint V28A_L (Leaded Chip Carrier, 28-Leads, Body 11.5x11.5mm, Pitch 1.27mm, IPC High Density)
footprint V28A_M (Leaded Chip Carrier, 28-Leads, Body 11.5x11.5mm, Pitch 1.27mm, IPC Low Density)
3D model 100328-V28A (28-Pin Leaded Chip Carrier 1.27 mm Pitch)
pins: 1 VCC (power), 2 VCCA (power), 3 DIR (in), 4 T7 (io), 5 T6 (io), 6 T5 (io), 7 T4 (io), 8 VEES (power), 9 T3 (io), 10 T2 (io), 11 T1 (io), 12 T0 (io), 13 VTTL (power), 14 VEE (power), 15 VEES (power), 16 VCC (power), 17 LE (in), 18 E0 (io), 19 E1 (io), 20 E2 (io), 21 E3 (io), 22 VEES (power), 23 E4 (io), 24 E5 (io), 25 E6 (io), 26 E7 (io), 27 OE (in), 28 VCC (power)

## 100328SC
designator U?
Low Power Octal ECL/TTL Bi-Directional Translator with Latch; Published: 17-Jul-2002; LatestRevisionDate: 13-Apr-2006; LatestRevisionNote: IPC-7351 Footprint Added.; DatasheetVersion: Nov-1999; PackageVersion: 2000; PackageReference: M24B; Publisher: Altium Limited; PackageDescription: 24-Pin Small Outline Integrated Circuit 1.27 mm Pitch; ComponentLink1Description: Manufacturer Link; ComponentLink1URL: http://www.fairchildsemi.com/
footprint M24B_N (SOIC, 24-Leads, Body 15.4x7.5mm, Pitch 1.27mm, IPC Medium Density)
footprint M24B_L (SOIC, 24-Leads, Body 15.4x7.5mm, Pitch 1.27mm, IPC High Density)
footprint M24B_M (SOIC, 24-Leads, Body 15.4x7.5mm, Pitch 1.27mm, IPC Low Density)
3D model M24B (24-Pin Small Outline Integrated Circuit 1.27 mm Pitch)
pins: 1 E4 (io), 2 E5 (io), 3 E6 (io), 4 E7 (io), 5 OE (in), 6 VCC (power), 7 VCCA (power), 8 DIR (in), 9 T7 (io), 10 T6 (io), 11 T5 (io), 12 T4 (io), 13 T3 (io), 14 T2 (io), 15 T1 (io), 16 T0 (io), 17 VTTL (power), 18 VEE (power), 19 VCC (power), 20 LE (in), 21 E0 (io), 22 E1 (io), 23 E2 (io), 24 E3 (io)

## 100328SCX
designator U?
Low Power Octal ECL/TTL Bi-Directional Translator with Latch; Published: 17-Jul-2002; LatestRevisionDate: 13-Apr-2006; LatestRevisionNote: IPC-7351 Footprint Added.; DatasheetVersion: Nov-1999; PackageVersion: 2000; PackageReference: M24B; Publisher: Altium Limited; PackageDescription: 24-Pin Small Outline Integrated Circuit 1.27 mm Pitch; ComponentLink1Description: Manufacturer Link; ComponentLink1URL: http://www.fairchildsemi.com/
footprint M24B_N (SOIC, 24-Leads, Body 15.4x7.5mm, Pitch 1.27mm, IPC Medium Density)
footprint M24B_L (SOIC, 24-Leads, Body 15.4x7.5mm, Pitch 1.27mm, IPC High Density)
footprint M24B_M (SOIC, 24-Leads, Body 15.4x7.5mm, Pitch 1.27mm, IPC Low Density)
3D model M24B (24-Pin Small Outline Integrated Circuit 1.27 mm Pitch)
pins: 1 E4 (io), 2 E5 (io), 3 E6 (io), 4 E7 (io), 5 OE (in), 6 VCC (power), 7 VCCA (power), 8 DIR (in), 9 T7 (io), 10 T6 (io), 11 T5 (io), 12 T4 (io), 13 T3 (io), 14 T2 (io), 15 T1 (io), 16 T0 (io), 17 VTTL (power), 18 VEE (power), 19 VCC (power), 20 LE (in), 21 E0 (io), 22 E1 (io), 23 E2 (io), 24 E3 (io)

## 100329PC
designator U?
Low Power Octal ECL/TTL Bidirectional Translator with Register; Published: 17-Jul-2002; LatestRevisionDate: 29-May-2009; LatestRevisionNote: Component Body Added.; DatasheetVersion: Nov-1999; PackageVersion: 1992; PackageReference: N24E; Publisher: Altium Limited; PackageDescription: DIP, 24-Pin, Row Spacing 10.16 mm, Pitch 2.54 mm; ComponentLink1Description: Manufacturer Link; ComponentLink1URL: http://www.fairchildsemi.com/; ComponentLink2Description: Datasheet; ComponentLink2URL: http://www.fairchildsemi.com/ds/10%2F100329.pdf
footprint N24E (DIP, 24-Leads, Row Spacing 10.16mm, Pitch 2.54mm, Body 30.59x8.69mm)
3D model N24E (DIP, 24-Pin, Row Spacing 10.16 mm, Pitch 2.54 mm)
pins: 1 E4 (io), 2 E5 (io), 3 E6 (io), 4 E7 (io), 5 OE (in), 6 VCC (power), 7 VCCA (power), 8 DIR (in), 9 T7 (io), 10 T6 (io), 11 T5 (io), 12 T4 (io), 13 T3 (io), 14 T2 (io), 15 T1 (io), 16 T0 (io), 17 VTTL (power), 18 VEE (power), 19 VCC (power), 20 CP (in), 21 E0 (io), 22 E1 (io), 23 E2 (io), 24 E3 (io)

## 100329PCX
designator U?
Low Power Octal ECL/TTL Bidirectional Translator with Register; Published: 17-Jul-2002; LatestRevisionDate: 29-May-2009; LatestRevisionNote: Component Body Added.; DatasheetVersion: Nov-1999; PackageVersion: 1992; PackageReference: N24E; Publisher: Altium Limited; PackageDescription: DIP, 24-Pin, Row Spacing 10.16 mm, Pitch 2.54 mm; ComponentLink1Description: Manufacturer Link; ComponentLink1URL: http://www.fairchildsemi.com/; ComponentLink2Description: Datasheet; ComponentLink2URL: http://www.fairchildsemi.com/ds/10%2F100329.pdf
footprint N24E (DIP, 24-Leads, Row Spacing 10.16mm, Pitch 2.54mm, Body 30.59x8.69mm)
3D model N24E (DIP, 24-Pin, Row Spacing 10.16 mm, Pitch 2.54 mm)
pins: 1 E4 (io), 2 E5 (io), 3 E6 (io), 4 E7 (io), 5 OE (in), 6 VCC (power), 7 VCCA (power), 8 DIR (in), 9 T7 (io), 10 T6 (io), 11 T5 (io), 12 T4 (io), 13 T3 (io), 14 T2 (io), 15 T1 (io), 16 T0 (io), 17 VTTL (power), 18 VEE (power), 19 VCC (power), 20 CP (in), 21 E0 (io), 22 E1 (io), 23 E2 (io), 24 E3 (io)

## 100329QC
designator U?
Low Power Octal ECL/TTL Bidirectional Translator with Register; Published: 17-Jul-2002; LatestRevisionDate: 13-Apr-2006; LatestRevisionNote: IPC-7351 Footprint Added.; DatasheetVersion: Nov-1999; PackageVersion: 2000; PackageReference: V28A; Publisher: Altium Limited; PackageDescription: 28-Pin Leaded Chip Carrier 1.27 mm Pitch; Code_IPC: PLCC-28; ComponentLink1Description: Manufacturer Link; ComponentLink1URL: http://www.fairchildsemi.com/; ComponentLink2Description: Datasheet; ComponentLink2URL: http://www.fairchildsemi.com/ds/10%2F100329.pdf
footprint V28A_N (Leaded Chip Carrier, 28-Leads, Body 11.5x11.5mm, Pitch 1.27mm, IPC Medium Density)
footprint V28A_L (Leaded Chip Carrier, 28-Leads, Body 11.5x11.5mm, Pitch 1.27mm, IPC High Density)
footprint V28A_M (Leaded Chip Carrier, 28-Leads, Body 11.5x11.5mm, Pitch 1.27mm, IPC Low Density)
3D model 100329-V28A (28-Pin Leaded Chip Carrier 1.27 mm Pitch)
pins: 1 VCC (power), 2 VCCA (power), 3 DIR (in), 4 T7 (io), 5 T6 (io), 6 T5 (io), 7 T4 (io), 8 VEES (power), 9 T3 (io), 10 T2 (io), 11 T1 (io), 12 T0 (io), 13 VTTL (power), 14 VEE (power), 15 VEES (power), 16 VCC (power), 17 CP (in), 18 E0 (io), 19 E1 (io), 20 E2 (io), 21 E3 (io), 22 VEES (power), 23 E4 (io), 24 E5 (io), 25 E6 (io), 26 E7 (io), 27 OE (in), 28 VCC (power)

## 100329QCX
designator U?
Low Power Octal ECL/TTL Bidirectional Translator with Register; Published: 17-Jul-2002; LatestRevisionDate: 13-Apr-2006; LatestRevisionNote: IPC-7351 Footprint Added.; DatasheetVersion: Nov-1999; PackageVersion: 2000; PackageReference: V28A; Publisher: Altium Limited; PackageDescription: 28-Pin Leaded Chip Carrier 1.27 mm Pitch; Code_IPC: PLCC-28; ComponentLink1Description: Manufacturer Link; ComponentLink1URL: http://www.fairchildsemi.com/; ComponentLink2Description: Datasheet; ComponentLink2URL: http://www.fairchildsemi.com/ds/10%2F100329.pdf
footprint V28A_N (Leaded Chip Carrier, 28-Leads, Body 11.5x11.5mm, Pitch 1.27mm, IPC Medium Density)
footprint V28A_L (Leaded Chip Carrier, 28-Leads, Body 11.5x11.5mm, Pitch 1.27mm, IPC High Density)
footprint V28A_M (Leaded Chip Carrier, 28-Leads, Body 11.5x11.5mm, Pitch 1.27mm, IPC Low Density)
3D model 100329-V28A (28-Pin Leaded Chip Carrier 1.27 mm Pitch)
pins: 1 VCC (power), 2 VCCA (power), 3 DIR (in), 4 T7 (io), 5 T6 (io), 6 T5 (io), 7 T4 (io), 8 VEES (power), 9 T3 (io), 10 T2 (io), 11 T1 (io), 12 T0 (io), 13 VTTL (power), 14 VEE (power), 15 VEES (power), 16 VCC (power), 17 CP (in), 18 E0 (io), 19 E1 (io), 20 E2 (io), 21 E3 (io), 22 VEES (power), 23 E4 (io), 24 E5 (io), 25 E6 (io), 26 E7 (io), 27 OE (in), 28 VCC (power)

## 100329QI
designator U?
Low Power Octal ECL/TTL Bidirectional Translator with Register; Published: 17-Jul-2002; LatestRevisionDate: 13-Apr-2006; LatestRevisionNote: IPC-7351 Footprint Added.; DatasheetVersion: Nov-1999; PackageVersion: 2000; PackageReference: V28A; Publisher: Altium Limited; PackageDescription: 28-Pin Leaded Chip Carrier 1.27 mm Pitch; Code_IPC: PLCC-28; ComponentLink1Description: Manufacturer Link; ComponentLink1URL: http://www.fairchildsemi.com/; ComponentLink2Description: Datasheet; ComponentLink2URL: http://www.fairchildsemi.com/ds/10%2F100329.pdf
footprint V28A_N (Leaded Chip Carrier, 28-Leads, Body 11.5x11.5mm, Pitch 1.27mm, IPC Medium Density)
footprint V28A_L (Leaded Chip Carrier, 28-Leads, Body 11.5x11.5mm, Pitch 1.27mm, IPC High Density)
footprint V28A_M (Leaded Chip Carrier, 28-Leads, Body 11.5x11.5mm, Pitch 1.27mm, IPC Low Density)
3D model 100329-V28A (28-Pin Leaded Chip Carrier 1.27 mm Pitch)
pins: 1 VCC (power), 2 VCCA (power), 3 DIR (in), 4 T7 (io), 5 T6 (io), 6 T5 (io), 7 T4 (io), 8 VEES (power), 9 T3 (io), 10 T2 (io), 11 T1 (io), 12 T0 (io), 13 VTTL (power), 14 VEE (power), 15 VEES (power), 16 VCC (power), 17 CP (in), 18 E0 (io), 19 E1 (io), 20 E2 (io), 21 E3 (io), 22 VEES (power), 23 E4 (io), 24 E5 (io), 25 E6 (io), 26 E7 (io), 27 OE (in), 28 VCC (power)

## 100329QIX
designator U?
Low Power Octal ECL/TTL Bidirectional Translator with Register; Published: 17-Jul-2002; LatestRevisionDate: 13-Apr-2006; LatestRevisionNote: IPC-7351 Footprint Added.; DatasheetVersion: Nov-1999; PackageVersion: 2000; PackageReference: V28A; Publisher: Altium Limited; PackageDescription: 28-Pin Leaded Chip Carrier 1.27 mm Pitch; Code_IPC: PLCC-28; ComponentLink1Description: Manufacturer Link; ComponentLink1URL: http://www.fairchildsemi.com/; ComponentLink2Description: Datasheet; ComponentLink2URL: http://www.fairchildsemi.com/ds/10%2F100329.pdf
footprint V28A_N (Leaded Chip Carrier, 28-Leads, Body 11.5x11.5mm, Pitch 1.27mm, IPC Medium Density)
footprint V28A_L (Leaded Chip Carrier, 28-Leads, Body 11.5x11.5mm, Pitch 1.27mm, IPC High Density)
footprint V28A_M (Leaded Chip Carrier, 28-Leads, Body 11.5x11.5mm, Pitch 1.27mm, IPC Low Density)
3D model 100329-V28A (28-Pin Leaded Chip Carrier 1.27 mm Pitch)
pins: 1 VCC (power), 2 VCCA (power), 3 DIR (in), 4 T7 (io), 5 T6 (io), 6 T5 (io), 7 T4 (io), 8 VEES (power), 9 T3 (io), 10 T2 (io), 11 T1 (io), 12 T0 (io), 13 VTTL (power), 14 VEE (power), 15 VEES (power), 16 VCC (power), 17 CP (in), 18 E0 (io), 19 E1 (io), 20 E2 (io), 21 E3 (io), 22 VEES (power), 23 E4 (io), 24 E5 (io), 25 E6 (io), 26 E7 (io), 27 OE (in), 28 VCC (power)

## 100393QC
designator U?
Low Power 9-Bit ECL-to-TTL Translator with Latches; Published: 17-Jul-2002; LatestRevisionDate: 13-Apr-2006; LatestRevisionNote: IPC-7351 Footprint Added.; DatasheetVersion: Mar-1998; PackageVersion: 2000; PackageReference: V28A; Publisher: Altium Limited; PackageDescription: 28-Pin Leaded Chip Carrier 1.27 mm Pitch; Code_IPC: PLCC-28; ComponentLink1Description: Manufacturer Link; ComponentLink1URL: http://www.fairchildsemi.com/
footprint V28A_N (Leaded Chip Carrier, 28-Leads, Body 11.5x11.5mm, Pitch 1.27mm, IPC Medium Density)
footprint V28A_L (Leaded Chip Carrier, 28-Leads, Body 11.5x11.5mm, Pitch 1.27mm, IPC High Density)
footprint V28A_M (Leaded Chip Carrier, 28-Leads, Body 11.5x11.5mm, Pitch 1.27mm, IPC Low Density)
3D model 100393-V28A (28-Pin Leaded Chip Carrier 1.27 mm Pitch)
pins: 1 D0 (in), 2 D1 (in), 3 D2 (in), 4 D3 (in), 5 D4 (in), 6 LE (in), 7 VCC (power), 8 VEE (power), 9 VCC (power), 10 ~{OE}/TTL (in), 11 D5 (in), 12 D6 (in), 13 D7 (in), 14 D8 (in), 15 Q8 (hiz), 16 Q7 (hiz), 17 Q6 (hiz), 18 Q5 (hiz), 19 VCCA (power), 20 ~{OE}/ECL (in), 21 VTTL (power), 22 VCCA (power), 23 VCCA (power), 24 Q4 (hiz), 25 Q3 (hiz), 26 Q2 (hiz), 27 Q1 (hiz), 28 Q0 (hiz)

## 100395QC
designator U?
Low Power 9-Bit ECL-to-TTL Translator with Registers; Published: 17-Jul-2002; LatestRevisionDate: 13-Apr-2006; LatestRevisionNote: IPC-7351 Footprint Added.; DatasheetVersion: Nov-1999; PackageVersion: 2000; PackageReference: V28A; Publisher: Altium Limited; PackageDescription: 28-Pin Leaded Chip Carrier 1.27 mm Pitch; Code_IPC: PLCC-28; ComponentLink1Description: Manufacturer Link; ComponentLink1URL: http://www.fairchildsemi.com/; ComponentLink2Description: Datasheet; ComponentLink2URL: http://www.fairchildsemi.com/ds/10%2F100395.pdf
footprint V28A_N (Leaded Chip Carrier, 28-Leads, Body 11.5x11.5mm, Pitch 1.27mm, IPC Medium Density)
footprint V28A_L (Leaded Chip Carrier, 28-Leads, Body 11.5x11.5mm, Pitch 1.27mm, IPC High Density)
footprint V28A_M (Leaded Chip Carrier, 28-Leads, Body 11.5x11.5mm, Pitch 1.27mm, IPC Low Density)
3D model 100395-V28A (28-Pin Leaded Chip Carrier 1.27 mm Pitch)
pins: 1 D0 (in), 2 D1 (in), 3 D2 (in), 4 D3 (in), 5 D4 (in), 6 CP1 (in), 7 VCC (power), 8 VEE (power), 9 VCC (power), 10 CP2 (in), 11 D5 (in), 12 D6 (in), 13 D7 (in), 14 D8 (in), 15 Q8 (hiz), 16 Q7 (hiz), 17 Q6 (hiz), 18 Q5 (hiz), 19 VCCA (power), 20 ~{OE} (in), 21 VTTL (power), 22 VCCA (power), 23 VCCA (power), 24 Q4 (hiz), 25 Q3 (hiz), 26 Q2 (hiz), 27 Q1 (hiz), 28 Q0 (hiz)

## 100395QCX
designator U?
Low Power 9-Bit ECL-to-TTL Translator with Registers; Published: 17-Jul-2002; LatestRevisionDate: 13-Apr-2006; LatestRevisionNote: IPC-7351 Footprint Added.; DatasheetVersion: Nov-1999; PackageVersion: 2000; PackageReference: V28A; Publisher: Altium Limited; PackageDescription: 28-Pin Leaded Chip Carrier 1.27 mm Pitch; Code_IPC: PLCC-28; ComponentLink1Description: Manufacturer Link; ComponentLink1URL: http://www.fairchildsemi.com/; ComponentLink2Description: Datasheet; ComponentLink2URL: http://www.fairchildsemi.com/ds/10%2F100395.pdf
footprint V28A_N (Leaded Chip Carrier, 28-Leads, Body 11.5x11.5mm, Pitch 1.27mm, IPC Medium Density)
footprint V28A_L (Leaded Chip Carrier, 28-Leads, Body 11.5x11.5mm, Pitch 1.27mm, IPC High Density)
footprint V28A_M (Leaded Chip Carrier, 28-Leads, Body 11.5x11.5mm, Pitch 1.27mm, IPC Low Density)
3D model 100395-V28A (28-Pin Leaded Chip Carrier 1.27 mm Pitch)
pins: 1 D0 (in), 2 D1 (in), 3 D2 (in), 4 D3 (in), 5 D4 (in), 6 CP1 (in), 7 VCC (power), 8 VEE (power), 9 VCC (power), 10 CP2 (in), 11 D5 (in), 12 D6 (in), 13 D7 (in), 14 D8 (in), 15 Q8 (hiz), 16 Q7 (hiz), 17 Q6 (hiz), 18 Q5 (hiz), 19 VCCA (power), 20 ~{OE} (in), 21 VTTL (power), 22 VCCA (power), 23 VCCA (power), 24 Q4 (hiz), 25 Q3 (hiz), 26 Q2 (hiz), 27 Q1 (hiz), 28 Q0 (hiz)

## 100397PC
designator U?
Quad Differential ECL/TTL Translating Transceiver with Latch; Published: 17-Jul-2002; LatestRevisionDate: 29-May-2009; LatestRevisionNote: Component Body Added.; DatasheetVersion: Nov-1999; PackageVersion: 1992; PackageReference: N24E; Publisher: Altium Limited; PackageDescription: DIP, 24-Pin, Row Spacing 10.16 mm, Pitch 2.54 mm; ComponentLink1Description: Manufacturer Link; ComponentLink1URL: http://www.fairchildsemi.com/
footprint N24E (DIP, 24-Leads, Row Spacing 10.16mm, Pitch 2.54mm, Body 30.59x8.69mm)
3D model N24E (DIP, 24-Pin, Row Spacing 10.16 mm, Pitch 2.54 mm)
pins: 1 ~{E}0 (io), 2 E0 (io), 3 ~{E}1 (io), 4 E1 (io), 5 VEE (power), 6 GNDECL (power), 7 GNDECLO (power), 8 VEED (power), 9 E2 (io), 10 ~{E}2 (io), 11 E3 (io), 12 ~{E}3 (io), 13 OE (in), 14 DIR (in), 15 GNDTTLD (power), 16 T3 (io), 17 T2 (io), 18 VTTLD (power), 19 GNDTTL (power), 20 VTTL (power), 21 T1 (io), 22 T0 (io), 23 GNDTTLD (power), 24 LE (in)

## 100397PCX
designator U?
Quad Differential ECL/TTL Translating Transceiver with Latch; Published: 17-Jul-2002; LatestRevisionDate: 29-May-2009; LatestRevisionNote: Component Body Added.; DatasheetVersion: Nov-1999; PackageVersion: 1992; PackageReference: N24E; Publisher: Altium Limited; PackageDescription: DIP, 24-Pin, Row Spacing 10.16 mm, Pitch 2.54 mm; ComponentLink1Description: Manufacturer Link; ComponentLink1URL: http://www.fairchildsemi.com/
footprint N24E (DIP, 24-Leads, Row Spacing 10.16mm, Pitch 2.54mm, Body 30.59x8.69mm)
3D model N24E (DIP, 24-Pin, Row Spacing 10.16 mm, Pitch 2.54 mm)
pins: 1 ~{E}0 (io), 2 E0 (io), 3 ~{E}1 (io), 4 E1 (io), 5 VEE (power), 6 GNDECL (power), 7 GNDECLO (power), 8 VEED (power), 9 E2 (io), 10 ~{E}2 (io), 11 E3 (io), 12 ~{E}3 (io), 13 OE (in), 14 DIR (in), 15 GNDTTLD (power), 16 T3 (io), 17 T2 (io), 18 VTTLD (power), 19 GNDTTL (power), 20 VTTL (power), 21 T1 (io), 22 T0 (io), 23 GNDTTLD (power), 24 LE (in)

## 100397QC
designator U?
Quad Differential ECL/TTL Translating Transceiver with Latch; Published: 17-Jul-2002; LatestRevisionDate: 13-Apr-2006; LatestRevisionNote: IPC-7351 Footprint Added.; DatasheetVersion: Nov-1999; PackageVersion: 2000; PackageReference: V28A; Publisher: Altium Limited; PackageDescription: 28-Pin Leaded Chip Carrier 1.27 mm Pitch; Code_IPC: PLCC-28; ComponentLink1Description: Manufacturer Link; ComponentLink1URL: http://www.fairchildsemi.com/
footprint V28A_N (Leaded Chip Carrier, 28-Leads, Body 11.5x11.5mm, Pitch 1.27mm, IPC Medium Density)
footprint V28A_L (Leaded Chip Carrier, 28-Leads, Body 11.5x11.5mm, Pitch 1.27mm, IPC High Density)
footprint V28A_M (Leaded Chip Carrier, 28-Leads, Body 11.5x11.5mm, Pitch 1.27mm, IPC Low Density)
3D model 100397-V28A (28-Pin Leaded Chip Carrier 1.27 mm Pitch)
pins: 1 GNDECL (power), 2 GNDECLO (power), 3 VEED (power), 4 E2 (io), 5 ~{E}2 (io), 6 E3 (io), 7 ~{E}3 (io), 8 GNDS (power), 9 OE (in), 10 DIR (in), 11 GNDTTLD (power), 12 T3 (io), 13 T2 (io), 14 VTTLD (power), 15 GNDS (power), 16 GNDTTL (power), 17 VTTL (power), 18 T1 (io), 19 T0 (io), 20 GNDTTLD (power), 21 LE (in), 22 GNDS (power), 23 ~{E}0 (io), 24 E0 (io), 25 ~{E}1 (io), 26 E1 (io), 27 VEE (power), 28 GNDECL (power)

## 100397QCX
designator U?
Quad Differential ECL/TTL Translating Transceiver with Latch; Published: 17-Jul-2002; LatestRevisionDate: 13-Apr-2006; LatestRevisionNote: IPC-7351 Footprint Added.; DatasheetVersion: Nov-1999; PackageVersion: 2000; PackageReference: V28A; Publisher: Altium Limited; PackageDescription: 28-Pin Leaded Chip Carrier 1.27 mm Pitch; Code_IPC: PLCC-28; ComponentLink1Description: Manufacturer Link; ComponentLink1URL: http://www.fairchildsemi.com/
footprint V28A_N (Leaded Chip Carrier, 28-Leads, Body 11.5x11.5mm, Pitch 1.27mm, IPC Medium Density)
footprint V28A_L (Leaded Chip Carrier, 28-Leads, Body 11.5x11.5mm, Pitch 1.27mm, IPC High Density)
footprint V28A_M (Leaded Chip Carrier, 28-Leads, Body 11.5x11.5mm, Pitch 1.27mm, IPC Low Density)
3D model 100397-V28A (28-Pin Leaded Chip Carrier 1.27 mm Pitch)
pins: 1 GNDECL (power), 2 GNDECLO (power), 3 VEED (power), 4 E2 (io), 5 ~{E}2 (io), 6 E3 (io), 7 ~{E}3 (io), 8 GNDS (power), 9 OE (in), 10 DIR (in), 11 GNDTTLD (power), 12 T3 (io), 13 T2 (io), 14 VTTLD (power), 15 GNDS (power), 16 GNDTTL (power), 17 VTTL (power), 18 T1 (io), 19 T0 (io), 20 GNDTTLD (power), 21 LE (in), 22 GNDS (power), 23 ~{E}0 (io), 24 E0 (io), 25 ~{E}1 (io), 26 E1 (io), 27 VEE (power), 28 GNDECL (power)

## 100397QI
designator U?
Quad Differential ECL/TTL Translating Transceiver with Latch; Published: 17-Jul-2002; LatestRevisionDate: 13-Apr-2006; LatestRevisionNote: IPC-7351 Footprint Added.; DatasheetVersion: Nov-1999; PackageVersion: 2000; PackageReference: V28A; Publisher: Altium Limited; PackageDescription: 28-Pin Leaded Chip Carrier 1.27 mm Pitch; Code_IPC: PLCC-28; ComponentLink1Description: Manufacturer Link; ComponentLink1URL: http://www.fairchildsemi.com/
footprint V28A_N (Leaded Chip Carrier, 28-Leads, Body 11.5x11.5mm, Pitch 1.27mm, IPC Medium Density)
footprint V28A_L (Leaded Chip Carrier, 28-Leads, Body 11.5x11.5mm, Pitch 1.27mm, IPC High Density)
footprint V28A_M (Leaded Chip Carrier, 28-Leads, Body 11.5x11.5mm, Pitch 1.27mm, IPC Low Density)
3D model 100397-V28A (28-Pin Leaded Chip Carrier 1.27 mm Pitch)
pins: 1 GNDECL (power), 2 GNDECLO (power), 3 VEED (power), 4 E2 (io), 5 ~{E}2 (io), 6 E3 (io), 7 ~{E}3 (io), 8 GNDS (power), 9 OE (in), 10 DIR (in), 11 GNDTTLD (power), 12 T3 (io), 13 T2 (io), 14 VTTLD (power), 15 GNDS (power), 16 GNDTTL (power), 17 VTTL (power), 18 T1 (io), 19 T0 (io), 20 GNDTTLD (power), 21 LE (in), 22 GNDS (power), 23 ~{E}0 (io), 24 E0 (io), 25 ~{E}1 (io), 26 E1 (io), 27 VEE (power), 28 GNDECL (power)

## 100397QIX
designator U?
Quad Differential ECL/TTL Translating Transceiver with Latch; Published: 17-Jul-2002; LatestRevisionDate: 13-Apr-2006; LatestRevisionNote: IPC-7351 Footprint Added.; DatasheetVersion: Nov-1999; PackageVersion: 2000; PackageReference: V28A; Publisher: Altium Limited; PackageDescription: 28-Pin Leaded Chip Carrier 1.27 mm Pitch; Code_IPC: PLCC-28; ComponentLink1Description: Manufacturer Link; ComponentLink1URL: http://www.fairchildsemi.com/
footprint V28A_N (Leaded Chip Carrier, 28-Leads, Body 11.5x11.5mm, Pitch 1.27mm, IPC Medium Density)
footprint V28A_L (Leaded Chip Carrier, 28-Leads, Body 11.5x11.5mm, Pitch 1.27mm, IPC High Density)
footprint V28A_M (Leaded Chip Carrier, 28-Leads, Body 11.5x11.5mm, Pitch 1.27mm, IPC Low Density)
3D model 100397-V28A (28-Pin Leaded Chip Carrier 1.27 mm Pitch)
pins: 1 GNDECL (power), 2 GNDECLO (power), 3 VEED (power), 4 E2 (io), 5 ~{E}2 (io), 6 E3 (io), 7 ~{E}3 (io), 8 GNDS (power), 9 OE (in), 10 DIR (in), 11 GNDTTLD (power), 12 T3 (io), 13 T2 (io), 14 VTTLD (power), 15 GNDS (power), 16 GNDTTL (power), 17 VTTL (power), 18 T1 (io), 19 T0 (io), 20 GNDTTLD (power), 21 LE (in), 22 GNDS (power), 23 ~{E}0 (io), 24 E0 (io), 25 ~{E}1 (io), 26 E1 (io), 27 VEE (power), 28 GNDECL (power)

## 100398PC
designator U?
Quad Differential ECL/TTL Translating Transceiver with Latch; Published: 17-Jul-2002; LatestRevisionDate: 29-May-2009; LatestRevisionNote: Component Body Added.; DatasheetVersion: Nov-1999; PackageVersion: 1992; PackageReference: N24E; Publisher: Altium Limited; PackageDescription: DIP, 24-Pin, Row Spacing 10.16 mm, Pitch 2.54 mm; ComponentLink1Description: Manufacturer Link; ComponentLink1URL: http://www.fairchildsemi.com/
footprint N24E (DIP, 24-Leads, Row Spacing 10.16mm, Pitch 2.54mm, Body 30.59x8.69mm)
3D model N24E (DIP, 24-Pin, Row Spacing 10.16 mm, Pitch 2.54 mm)
pins: 1 ~{E}0 (io), 2 E0 (io), 3 ~{E}1 (io), 4 E1 (io), 5 VEE (power), 6 GNDECL (power), 7 GNDECLO (power), 8 VEED (power), 9 E2 (io), 10 ~{E}2 (io), 11 E3 (io), 12 ~{E}3 (io), 13 OE (in), 14 DIR (in), 15 GNDTTLD (power), 16 T3 (io), 17 T2 (io), 18 VTTLD (power), 19 GNDTTL (power), 20 VTTL (power), 21 T1 (io), 22 T0 (io), 23 GNDTTLD (power), 24 LE (in)

## 100398PCX
designator U?
Quad Differential ECL/TTL Translating Transceiver with Latch; Published: 17-Jul-2002; LatestRevisionDate: 29-May-2009; LatestRevisionNote: Component Body Added.; DatasheetVersion: Nov-1999; PackageVersion: 1992; PackageReference: N24E; Publisher: Altium Limited; PackageDescription: DIP, 24-Pin, Row Spacing 10.16 mm, Pitch 2.54 mm; ComponentLink1Description: Manufacturer Link; ComponentLink1URL: http://www.fairchildsemi.com/
footprint N24E (DIP, 24-Leads, Row Spacing 10.16mm, Pitch 2.54mm, Body 30.59x8.69mm)
3D model N24E (DIP, 24-Pin, Row Spacing 10.16 mm, Pitch 2.54 mm)
pins: 1 ~{E}0 (io), 2 E0 (io), 3 ~{E}1 (io), 4 E1 (io), 5 VEE (power), 6 GNDECL (power), 7 GNDECLO (power), 8 VEED (power), 9 E2 (io), 10 ~{E}2 (io), 11 E3 (io), 12 ~{E}3 (io), 13 OE (in), 14 DIR (in), 15 GNDTTLD (power), 16 T3 (io), 17 T2 (io), 18 VTTLD (power), 19 GNDTTL (power), 20 VTTL (power), 21 T1 (io), 22 T0 (io), 23 GNDTTLD (power), 24 LE (in)

## 100398QC
designator U?
Quad Differential ECL/TTL Translating Transceiver with Latch; Published: 17-Jul-2002; LatestRevisionDate: 13-Apr-2006; LatestRevisionNote: IPC-7351 Footprint Added.; DatasheetVersion: Nov-1999; PackageVersion: 2000; PackageReference: V28A; Publisher: Altium Limited; PackageDescription: 28-Pin Leaded Chip Carrier 1.27 mm Pitch; Code_IPC: PLCC-28; ComponentLink1Description: Manufacturer Link; ComponentLink1URL: http://www.fairchildsemi.com/
footprint V28A_N (Leaded Chip Carrier, 28-Leads, Body 11.5x11.5mm, Pitch 1.27mm, IPC Medium Density)
footprint V28A_L (Leaded Chip Carrier, 28-Leads, Body 11.5x11.5mm, Pitch 1.27mm, IPC High Density)
footprint V28A_M (Leaded Chip Carrier, 28-Leads, Body 11.5x11.5mm, Pitch 1.27mm, IPC Low Density)
3D model 100398-V28A (28-Pin Leaded Chip Carrier 1.27 mm Pitch)
pins: 1 GNDECL (power), 2 GNDECLO (power), 3 VEED (power), 4 E2 (io), 5 ~{E}2 (io), 6 E3 (io), 7 ~{E}3 (io), 8 GNDS (power), 9 OE (in), 10 DIR (in), 11 GNDTTLD (power), 12 T3 (io), 13 T2 (io), 14 VTTLD (power), 15 GNDS (power), 16 GNDTTL (power), 17 VTTL (power), 18 T1 (io), 19 T0 (io), 20 GNDTTLD (power), 21 LE (in), 22 GNDS (power), 23 ~{E}0 (io), 24 E0 (io), 25 ~{E}1 (io), 26 E1 (io), 27 VEE (power), 28 GNDECL (power)

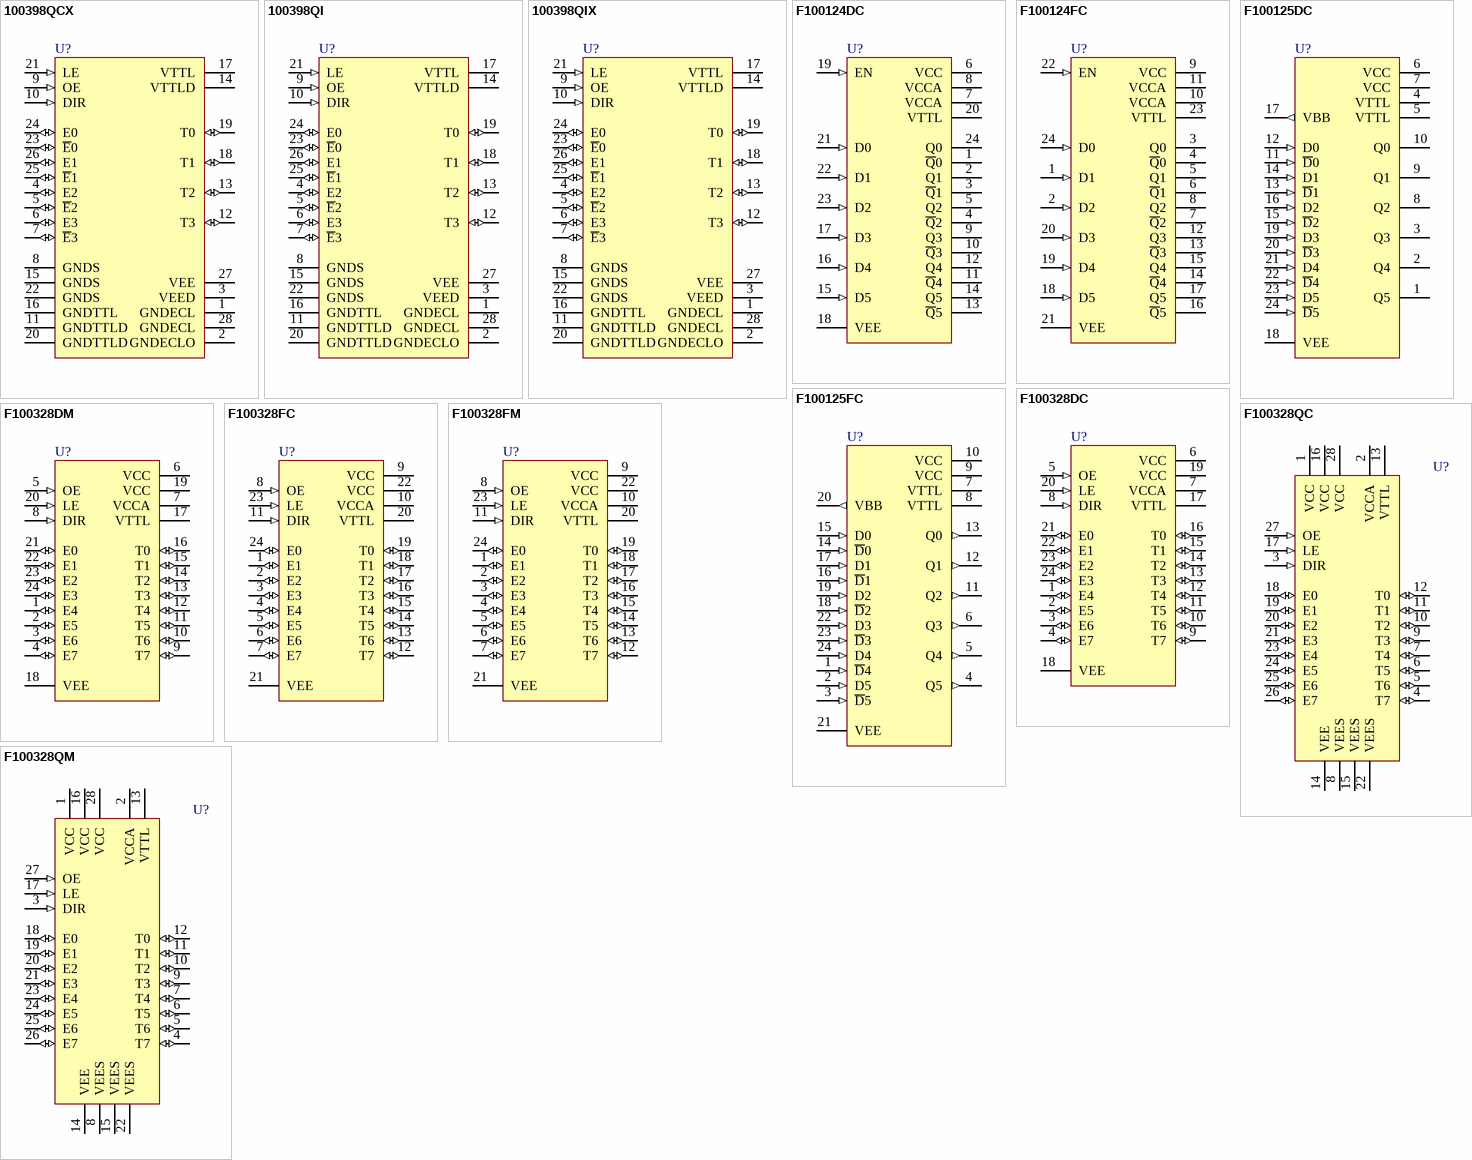
[diagram p2: symbols 100398QCX to F100328QM]